# EAGLE library part 2600-08 (library Header and Connector)
2600 PCB Connector - 8 Ways Created by: Wai Weng
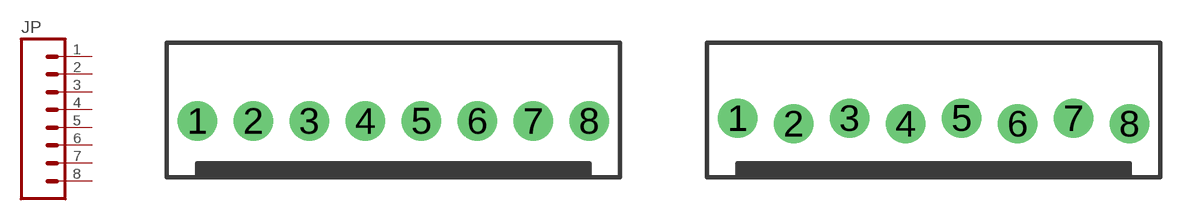
[diagram p39: symbol with the pads of 2600-08; footprints 2600-08, 2600-08-LOCK]

Designator prefix JP

## 2600-08_(NORMAL) (CYTRON-PC: CN-2600PS-08; DESC: 2600 PCB Connector; REMARK: Related Product: CN-2510H-08 (2510 Connector Housing); VALUE: 8 ways)  [2600-08]
1  1  pas
2  2  pas
3  3  pas
4  4  pas
5  5  pas
6  6  pas
7  7  pas
8  8  pas

## 2600-08_(LOCK) (CYTRON-PC: CN-2600PS-08; DESC: 2600 PCB Connector; REMARK: Related Product: CN-2510H-08 (2510 Connector Housing); VALUE: 8 ways)  [2600-08-LOCK]
Pads as for 2600-08

## Footprint 2600-08 (pad centres in mm)
2600 PCB Connector - 8 Ways Created by: Wai Weng
drill 1.016 pad 1.778: 1 0,0; 2 2.54,0; 3 5.08,0; 4 7.62,0; 5 10.16,0; 6 12.7,0; 7 15.24,0; 8 17.78,0

## Footprint 2600-08-LOCK (pad centres in mm)
2600 PCB Connector - 8 Ways (Pad shifted 5mil to lock the header during soldering) Created by: Wai Weng
drill 1.016 pad 1.778: 1 0,0.127; 2 2.54,-0.127; 3 5.08,0.127; 4 7.62,-0.127; 5 10.16,0.127; 6 12.7,-0.127; 7 15.24,0.127; 8 17.78,-0.127